# Altium footprint library PCB - CONNECTOR - PHOENIX 1730434.PcbLib: 1 footprints
Each footprint in its own frame and in the unit in brackets; x right, y up, seen from the top. Pads: shape width x height; smd on the part's side, far side on the other; paste and mask are expansions set on the pad; w line width, h text height; cw(c..) or ccw(c..) is an arc to the next point about the centre after c.
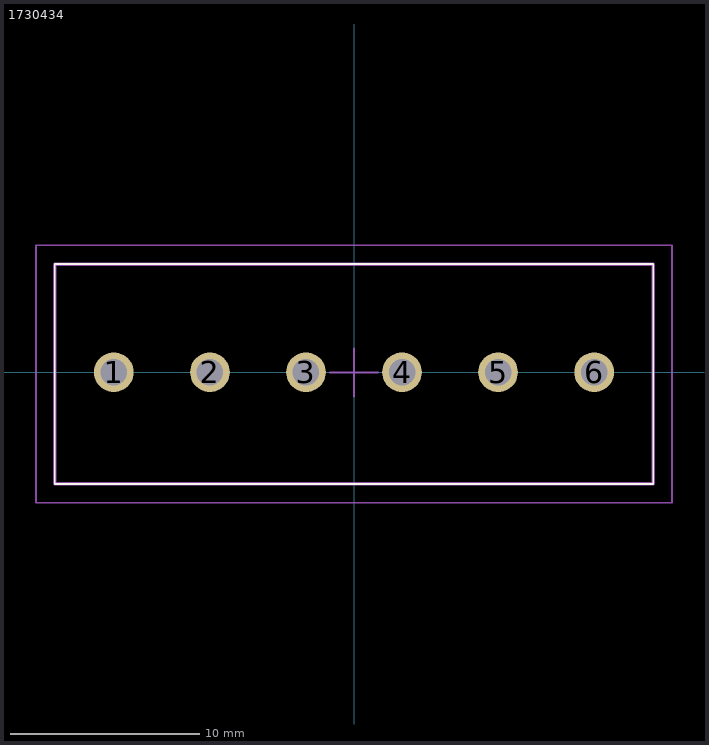
[diagram p0: the footprint, top view; thin cyan lines are the x and y axes]

## 1730434 [mm]
pads (6):
  round 2.1 hole 1.4: 1(-12.7,0) 2(-7.62,0) 3(-2.54,0) 4(2.54,0) 5(7.62,0) 6(12.7,0)
Top Overlay:
  lines w0.1: -15.83,-5.9 -15.83,5.72 15.83,5.72 15.83,-5.9 -15.83,-5.9
Top Assembly:
  lines w0.2: -15.83,-5.9 -15.83,5.72 15.83,5.72 15.83,-5.9 -15.83,-5.9
Top Courtyard:
  lines w0.1: -16.83,-6.9 -16.83,6.72 16.83,6.72 16.83,-6.9 -16.83,-6.9
Top Designator:
  text ".Designator" at -7.366,7.493 h1.52
Top Component Center:
  lines w0.102: -1.27,0 0,0 ; 0,-1.27 0,0 ; 1.27,0 0,0 ; 0,0 0,1.27 0,0
3D body "1730434.stp": height 18.74, standoff -2.96, extent -15.83,-5.9 15.83,5.72